# Altium schematic symbol library TIK_SIM.SchLib: 1 symbol
Pins are listed as number, name and electrical type; pins without a type are passive.

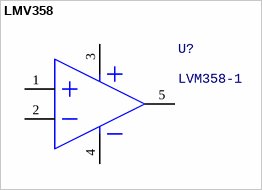
[diagram p0: symbol LMV358]

## LMV358
designator U?  Part: LVM358-1  (hidden comment: *)
simulation model lmv358 (Model Description)
pins: 1 VIN+, 2 VIN-, 3 VSUP+, 4 VSUP-, 5 VOUT